# Altium footprint library Ceramic DFP.PcbLib: 44 footprints (part 3 of 3)
Each footprint in its own frame and in the unit in brackets; x right, y up, seen from the top. Pads: shape width x height; smd on the part's side, far side on the other; paste and mask are expansions set on the pad; w line width, h text height; cw(c..) or ccw(c..) is an arc to the next point about the centre after c.
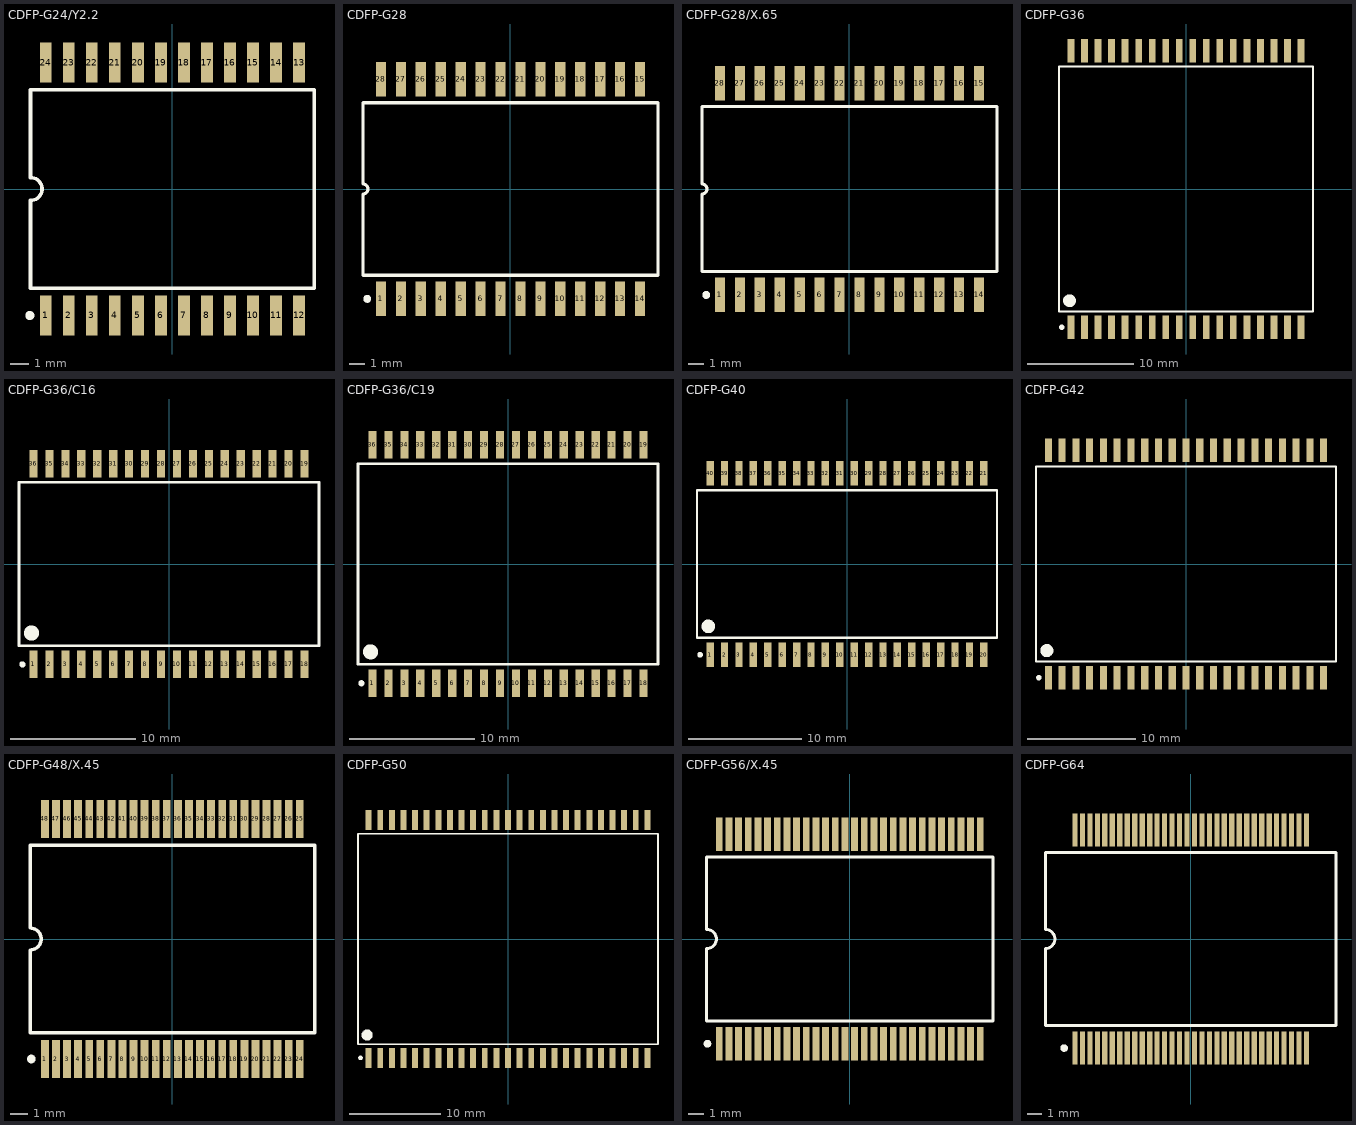
[diagram p2: the footprints below, top view; thin cyan lines are the x and y axes]

## CDFP-G24/Y2.2 [mm] "DFP; 24 Leads; Body 15.6 x 10.7 mm (LxW max); Pitch 1.27 mm"
height 2.54
pads (24):
  rect 0.65x2.2 smd: 1(-6.985,-6.975) 2(-5.715,-6.975) 3(-4.445,-6.975) 4(-3.175,-6.975) 5(-1.905,-6.975) 6(-0.635,-6.975) 7(0.635,-6.975) 8(1.905,-6.975) 9(3.175,-6.975) 10(4.445,-6.975) 11(5.715,-6.975) 12(6.985,-6.975) 13(6.985,6.975) 14(5.715,6.975) 15(4.445,6.975) 16(3.175,6.975) 17(1.905,6.975) 18(0.635,6.975) 19(-0.635,6.975) 20(-1.905,6.975) 21(-3.175,6.975) 22(-4.445,6.975) 23(-5.715,6.975) 24(-6.985,6.975)
Top Overlay:
  circle w0.25: c-7.86,-6.975 r0.125
  lines w0.2: -7.825,-5.475 7.825,-5.475 7.825,5.475 -7.825,5.475 -7.825,0.635 cw(c-7.825,0) -7.825,-0.635 -7.825,-5.475

## CDFP-G28 [mm] "DFP; 28 Leads; Body 18.8 x 10.2 mm (LxW max); Pitch 1.27 mm"
height 2.5
pads (28):
  rect 0.65x2.2 smd: 1(-8.255,-7) 2(-6.985,-7) 3(-5.715,-7) 4(-4.445,-7) 5(-3.175,-7) 6(-1.905,-7) 7(-0.635,-7) 8(0.635,-7) 9(1.905,-7) 10(3.175,-7) 11(4.445,-7) 12(5.715,-7) 13(6.985,-7) 14(8.255,-7) 15(8.255,7) 16(6.985,7) 17(5.715,7) 18(4.445,7) 19(3.175,7) 20(1.905,7) 21(0.635,7) 22(-0.635,7) 23(-1.905,7) 24(-3.175,7) 25(-4.445,7) 26(-5.715,7) 27(-6.985,7) 28(-8.255,7)
Top Overlay:
  circle w0.25: c-9.13,-6.999 r0.125
  lines w0.2: -9.4,-5.5 -9.4,-0.318 ccw(c-9.4,0) -9.4,0.318 -9.4,5.5 9.4,5.5 9.4,-5.5 -9.4,-5.5

## CDFP-G28/X.65 [mm] "DFP, Window; 28 Leads; Body 18.8 x 9.7 mm (LxW max); Pitch 1.27 mm"
height 2.54
pads (28):
  rect 0.65x2.2 smd: 1(-8.255,-6.75) 2(-6.985,-6.75) 3(-5.715,-6.75) 4(-4.445,-6.75) 5(-3.175,-6.75) 6(-1.905,-6.75) 7(-0.635,-6.75) 8(0.635,-6.75) 9(1.905,-6.75) 10(3.175,-6.75) 11(4.445,-6.75) 12(5.715,-6.75) 13(6.985,-6.75) 14(8.255,-6.75) 15(8.255,6.75) 16(6.985,6.75) 17(5.715,6.75) 18(4.445,6.75) 19(3.175,6.75) 20(1.905,6.75) 21(0.635,6.75) 22(-0.635,6.75) 23(-1.905,6.75) 24(-3.175,6.75) 25(-4.445,6.75) 26(-5.715,6.75) 27(-6.985,6.75) 28(-8.255,6.75)
Top Overlay:
  circle w0.25: c-9.13,-6.75 r0.125
  lines w0.2: -9.4,-5.25 -9.4,-0.318 ccw(c-9.4,0) -9.4,0.318 -9.4,5.25 9.4,5.25 9.4,-5.25 -9.4,-5.25

## CDFP-G36 [mm] "DFP; 36 Leads; Body 23.9 x 22.9 mm (LxW max); Pitch 1.27 mm"
height 3
pads (36):
  rect 0.65x2.2 smd: 1(-10.795,-13) 2(-9.525,-13) 3(-8.255,-13) 4(-6.985,-13) 5(-5.715,-13) 6(-4.445,-13) 7(-3.175,-13) 8(-1.905,-13) 9(-0.635,-13) 10(0.635,-13) 11(1.905,-13) 12(3.175,-13) 13(4.445,-13) 14(5.715,-13) 15(6.985,-13) 16(8.255,-13) 17(9.525,-13) 18(10.795,-13) 19(10.795,13) 20(9.525,13) 21(8.255,13) 22(6.985,13) 23(5.715,13) 24(4.445,13) 25(3.175,13) 26(1.905,13) 27(0.635,13) 28(-0.635,13) 29(-1.905,13) 30(-3.175,13) 31(-4.445,13) 32(-5.715,13) 33(-6.985,13) 34(-8.255,13) 35(-9.525,13) 36(-10.795,13)
Top Overlay:
  circle w0.25: c-11.68,-13 r0.125
  circle w0.6: c-10.95,-10.5 r0.3
  lines w0.2: -11.95,-11.5 -11.95,-0.635 -11.95,11.5 11.95,11.5 11.95,-11.5 -11.95,-11.5

## CDFP-G36/C16 [mm] "DFP; 36 Leads; Body 23.9 x 12.7 mm (LxW max); Pitch 1.27 mm"
height 3
pads (36):
  rect 0.65x2.2 smd: 1(-10.795,-8) 2(-9.525,-8) 3(-8.255,-8) 4(-6.985,-8) 5(-5.715,-8) 6(-4.445,-8) 7(-3.175,-8) 8(-1.905,-8) 9(-0.635,-8) 10(0.635,-8) 11(1.905,-8) 12(3.175,-8) 13(4.445,-8) 14(5.715,-8) 15(6.985,-8) 16(8.255,-8) 17(9.525,-8) 18(10.795,-8) 19(10.795,8) 20(9.525,8) 21(8.255,8) 22(6.985,8) 23(5.715,8) 24(4.445,8) 25(3.175,8) 26(1.905,8) 27(0.635,8) 28(-0.635,8) 29(-1.905,8) 30(-3.175,8) 31(-4.445,8) 32(-5.715,8) 33(-6.985,8) 34(-8.255,8) 35(-9.525,8) 36(-10.795,8)
Top Overlay:
  circle w0.25: c-11.68,-8 r0.125
  circle w0.6: c-10.95,-5.5 r0.3
  lines w0.2: -11.95,-6.5 -11.95,-0.635 -11.95,6.5 11.95,6.5 11.95,-6.5 -11.95,-6.5

## CDFP-G36/C19 [mm] "DFP; 36 Leads; Body 23.9 x 15.2 mm (LxW max); Pitch 1.27 mm"
height 3
pads (36):
  rect 0.65x2.2 smd: 1(-10.795,-9.5) 2(-9.525,-9.5) 3(-8.255,-9.5) 4(-6.985,-9.5) 5(-5.715,-9.5) 6(-4.445,-9.5) 7(-3.175,-9.5) 8(-1.905,-9.5) 9(-0.635,-9.5) 10(0.635,-9.5) 11(1.905,-9.5) 12(3.175,-9.5) 13(4.445,-9.5) 14(5.715,-9.5) 15(6.985,-9.5) 16(8.255,-9.5) 17(9.525,-9.5) 18(10.795,-9.5) 19(10.795,9.5) 20(9.525,9.5) 21(8.255,9.5) 22(6.985,9.5) 23(5.715,9.5) 24(4.445,9.5) 25(3.175,9.5) 26(1.905,9.5) 27(0.635,9.5) 28(-0.635,9.5) 29(-1.905,9.5) 30(-3.175,9.5) 31(-4.445,9.5) 32(-5.715,9.5) 33(-6.985,9.5) 34(-8.255,9.5) 35(-9.525,9.5) 36(-10.795,9.5)
Top Overlay:
  circle w0.25: c-11.68,-9.5 r0.125
  circle w0.6: c-10.95,-7 r0.3
  lines w0.2: -11.95,-8 -11.95,-0.635 -11.95,8 11.95,8 11.95,-8 -11.95,-8

## CDFP-G40 [mm] "DFP; 40 Leads; Body 26.4 x 12.7 mm (LxW max); Pitch 1.27 mm"
height 3
pads (40):
  rect 0.65x2.2 smd: 1(-12.065,-8) 2(-10.795,-8) 3(-9.525,-8) 4(-8.255,-8) 5(-6.985,-8) 6(-5.715,-8) 7(-4.445,-8) 8(-3.175,-8) 9(-1.905,-8) 10(-0.635,-8) 11(0.635,-8) 12(1.905,-8) 13(3.175,-8) 14(4.445,-8) 15(5.715,-8) 16(6.985,-8) 17(8.255,-8) 18(9.525,-8) 19(10.795,-8) 20(12.065,-8) 21(12.065,8) 22(10.795,8) 23(9.525,8) 24(8.255,8) 25(6.985,8) 26(5.715,8) 27(4.445,8) 28(3.175,8) 29(1.905,8) 30(0.635,8) 31(-0.635,8) 32(-1.905,8) 33(-3.175,8) 34(-4.445,8) 35(-5.715,8) 36(-6.985,8) 37(-8.255,8) 38(-9.525,8) 39(-10.795,8) 40(-12.065,8)
Top Overlay:
  circle w0.6: c-12.225,-5.5 r0.3
  circle w0.25: c-12.95,-8 r0.125
  lines w0.2: -13.225,-6.5 13.225,-6.5 13.225,6.5 -13.225,6.5 -13.225,-0.635 -13.225,-6.5

## CDFP-G42 [mm] "DFP; 42 Leads; Body 27.7 x 17.8 mm (LxW max); Pitch 1.27 mm"
height 3
pads (42):
  rect 0.65x2.2 smd: 1(-12.7,-10.5) 2(-11.43,-10.5) 3(-10.16,-10.5) 4(-8.89,-10.5) 5(-7.62,-10.5) 6(-6.35,-10.5) 7(-5.08,-10.5) 8(-3.81,-10.5) 9(-2.54,-10.5) 10(-1.27,-10.5) 11(0,-10.5) 12(1.27,-10.5) 13(2.54,-10.5) 14(3.81,-10.5) 15(5.08,-10.5) 16(6.35,-10.5) 17(7.62,-10.5) 18(8.89,-10.5) 19(10.16,-10.5) 20(11.43,-10.5) 21(12.7,-10.5) 22(12.7,10.5) 23(11.43,10.5) 24(10.16,10.5) 25(8.89,10.5) 26(7.62,10.5) 27(6.35,10.5) 28(5.08,10.5) 29(3.81,10.5) 30(2.54,10.5) 31(1.27,10.5) 32(0,10.5) 33(-1.27,10.5) 34(-2.54,10.5) 35(-3.81,10.5) 36(-5.08,10.5) 37(-6.35,10.5) 38(-7.62,10.5) 39(-8.89,10.5) 40(-10.16,10.5) 41(-11.43,10.5) 42(-12.7,10.5)
Top Overlay:
  circle w0.25: c-13.585,-10.5 r0.125
  circle w0.6: c-12.85,-8 r0.3
  lines w0.2: -13.85,-9 -13.85,-0.635 -13.85,9 13.85,9 13.85,-9 -13.85,-9

## CDFP-G48/X.45 [mm] "DFP; 48 Leads; Body 16.3 x 9.9 mm (LxW max); Pitch 0.635 mm"
height 3.05
pads (48):
  rect 0.45x2.2 smd: 1(-7.302,-6.875) 2(-6.667,-6.875) 3(-6.032,-6.875) 4(-5.397,-6.875) 5(-4.763,-6.875) 6(-4.127,-6.875) 7(-3.492,-6.875) 8(-2.857,-6.875) 9(-2.222,-6.875) 10(-1.587,-6.875) 11(-0.953,-6.875) 12(-0.318,-6.875) 13(0.318,-6.875) 14(0.953,-6.875) 15(1.587,-6.875) 16(2.222,-6.875) 17(2.857,-6.875) 18(3.492,-6.875) 19(4.127,-6.875) 20(4.763,-6.875) 21(5.397,-6.875) 22(6.032,-6.875) 23(6.667,-6.875) 24(7.302,-6.875) 25(7.302,6.875) 26(6.667,6.875) 27(6.032,6.875) 28(5.397,6.875) 29(4.763,6.875) 30(4.127,6.875) 31(3.492,6.875) 32(2.857,6.875) 33(2.222,6.875) 34(1.587,6.875) 35(0.953,6.875) 36(0.318,6.875) 37(-0.318,6.875) 38(-0.953,6.875) 39(-1.587,6.875) 40(-2.222,6.875) 41(-2.857,6.875) 42(-3.492,6.875) 43(-4.127,6.875) 44(-4.763,6.875) 45(-5.397,6.875) 46(-6.032,6.875) 47(-6.667,6.875) 48(-7.302,6.875)
Top Overlay:
  circle w0.25: c-8.077,-6.875 r0.125
  lines w0.2: -8.15,-5.375 8.15,-5.375 8.15,5.375 -8.15,5.375 -8.15,0.635 cw(c-8.15,0) -8.15,-0.635 -8.15,-5.375

## CDFP-G50 [mm] "DFP; 50 Leads; Body 32.8 x 22.9 mm (LxW max); Pitch 1.27 mm"
height 3
pads (50):
  rect 0.65x2.2 smd: 1(-15.24,-13) 2(-13.97,-13) 3(-12.7,-13) 4(-11.43,-13) 5(-10.16,-13) 6(-8.89,-13) 7(-7.62,-13) 8(-6.35,-13) 9(-5.08,-13) 10(-3.81,-13) 11(-2.54,-13) 12(-1.27,-13) 13(0,-13) 14(1.27,-13) 15(2.54,-13) 16(3.81,-13) 17(5.08,-13) 18(6.35,-13) 19(7.62,-13) 20(8.89,-13) 21(10.16,-13) 22(11.43,-13) 23(12.7,-13) 24(13.97,-13) 25(15.24,-13) 26(15.24,13) 27(13.97,13) 28(12.7,13) 29(11.43,13) 30(10.16,13) 31(8.89,13) 32(7.62,13) 33(6.35,13) 34(5.08,13) 35(3.81,13) 36(2.54,13) 37(1.27,13) 38(0,13) 39(-1.27,13) 40(-2.54,13) 41(-3.81,13) 42(-5.08,13) 43(-6.35,13) 44(-7.62,13) 45(-8.89,13) 46(-10.16,13) 47(-11.43,13) 48(-12.7,13) 49(-13.97,13) 50(-15.24,13)
Top Overlay:
  circle w0.6: c-15.4,-10.5 r0.3
  circle w0.25: c-16.125,-13 r0.125
  lines w0.2: -16.4,-11.5 16.4,-11.5 16.4,11.5 -16.4,11.5 -16.4,-0.635 -16.4,-11.5

## CDFP-G56/X.45 [mm] "DFP; 56 Leads; Body 18.8 x 9.9 mm (LxW max); Pitch 0.635 mm"
height 3.05
pads (56):
  rect 0.45x2.2 smd: 1(-8.572,-6.875) 2(-7.938,-6.875) 3(-7.302,-6.875) 4(-6.667,-6.875) 5(-6.032,-6.875) 6(-5.397,-6.875) 7(-4.763,-6.875) 8(-4.127,-6.875) 9(-3.492,-6.875) 10(-2.857,-6.875) 11(-2.222,-6.875) 12(-1.587,-6.875) 13(-0.953,-6.875) 14(-0.318,-6.875) 15(0.318,-6.875) 16(0.953,-6.875) 17(1.587,-6.875) 18(2.222,-6.875) 19(2.857,-6.875) 20(3.492,-6.875) 21(4.127,-6.875) 22(4.763,-6.875) 23(5.397,-6.875) 24(6.032,-6.875) 25(6.667,-6.875) 26(7.302,-6.875) 27(7.938,-6.875) 28(8.572,-6.875) 29(8.572,6.875) 30(7.938,6.875) 31(7.302,6.875) 32(6.667,6.875) 33(6.032,6.875) 34(5.397,6.875) 35(4.763,6.875) 36(4.127,6.875) 37(3.492,6.875) 38(2.857,6.875) 39(2.222,6.875) 40(1.587,6.875) 41(0.953,6.875) 42(0.318,6.875) 43(-0.318,6.875) 44(-0.953,6.875) 45(-1.587,6.875) 46(-2.222,6.875) 47(-2.857,6.875) 48(-3.492,6.875) 49(-4.127,6.875) 50(-4.763,6.875) 51(-5.397,6.875) 52(-6.032,6.875) 53(-6.667,6.875) 54(-7.302,6.875) 55(-7.938,6.875) 56(-8.572,6.875)
Top Overlay:
  circle w0.25: c-9.347,-6.875 r0.125
  lines w0.2: -9.4,-5.375 -9.4,-0.635 ccw(c-9.4,0) -9.4,0.635 -9.4,5.375 9.4,5.375 9.4,-5.375 -9.4,-5.375

## CDFP-G64 [mm] "DFP; 64 Leads; Body 19.4 x 11.3 mm (LxW max); Pitch 0.5 mm"
height 3.81
pads (64):
  rect 0.35x2.2 smd: 1(-7.75,-7.3) 2(-7.25,-7.3) 3(-6.75,-7.3) 4(-6.25,-7.3) 5(-5.75,-7.3) 6(-5.25,-7.3) 7(-4.75,-7.3) 8(-4.25,-7.3) 9(-3.75,-7.3) 10(-3.25,-7.3) 11(-2.75,-7.3) 12(-2.25,-7.3) 13(-1.75,-7.3) 14(-1.25,-7.3) 15(-0.75,-7.3) 16(-0.25,-7.3) 17(0.25,-7.3) 18(0.75,-7.3) 19(1.25,-7.3) 20(1.75,-7.3) 21(2.25,-7.3) 22(2.75,-7.3) 23(3.25,-7.3) 24(3.75,-7.3) 25(4.25,-7.3) 26(4.75,-7.3) 27(5.25,-7.3) 28(5.75,-7.3) 29(6.25,-7.3) 30(6.75,-7.3) 31(7.25,-7.3) 32(7.75,-7.3) 33(7.75,7.3) 34(7.25,7.3) 35(6.75,7.3) 36(6.25,7.3) 37(5.75,7.3) 38(5.25,7.3) 39(4.75,7.3) 40(4.25,7.3) 41(3.75,7.3) 42(3.25,7.3) 43(2.75,7.3) 44(2.25,7.3) 45(1.75,7.3) 46(1.25,7.3) 47(0.75,7.3) 48(0.25,7.3) 49(-0.25,7.3) 50(-0.75,7.3) 51(-1.25,7.3) 52(-1.75,7.3) 53(-2.25,7.3) 54(-2.75,7.3) 55(-3.25,7.3) 56(-3.75,7.3) 57(-4.25,7.3) 58(-4.75,7.3) 59(-5.25,7.3) 60(-5.75,7.3) 61(-6.25,7.3) 62(-6.75,7.3) 63(-7.25,7.3) 64(-7.75,7.3)
Top Overlay:
  circle w0.25: c-8.475,-7.3 r0.125
  lines w0.2: -9.725,-5.8 -9.725,-0.635 ccw(c-9.725,0) -9.725,0.635 -9.725,5.8 9.725,5.8 9.725,-5.8 -9.725,-5.8